# Altium footprint library Supernova Inductors.PcbLib: 56 footprints (part 3 of 4)
Each footprint in its own frame and in the unit in brackets; x right, y up, seen from the top. Pads: shape width x height; smd on the part's side, far side on the other; paste and mask are expansions set on the pad; w line width, h text height; cw(c..) or ccw(c..) is an arc to the next point about the centre after c.
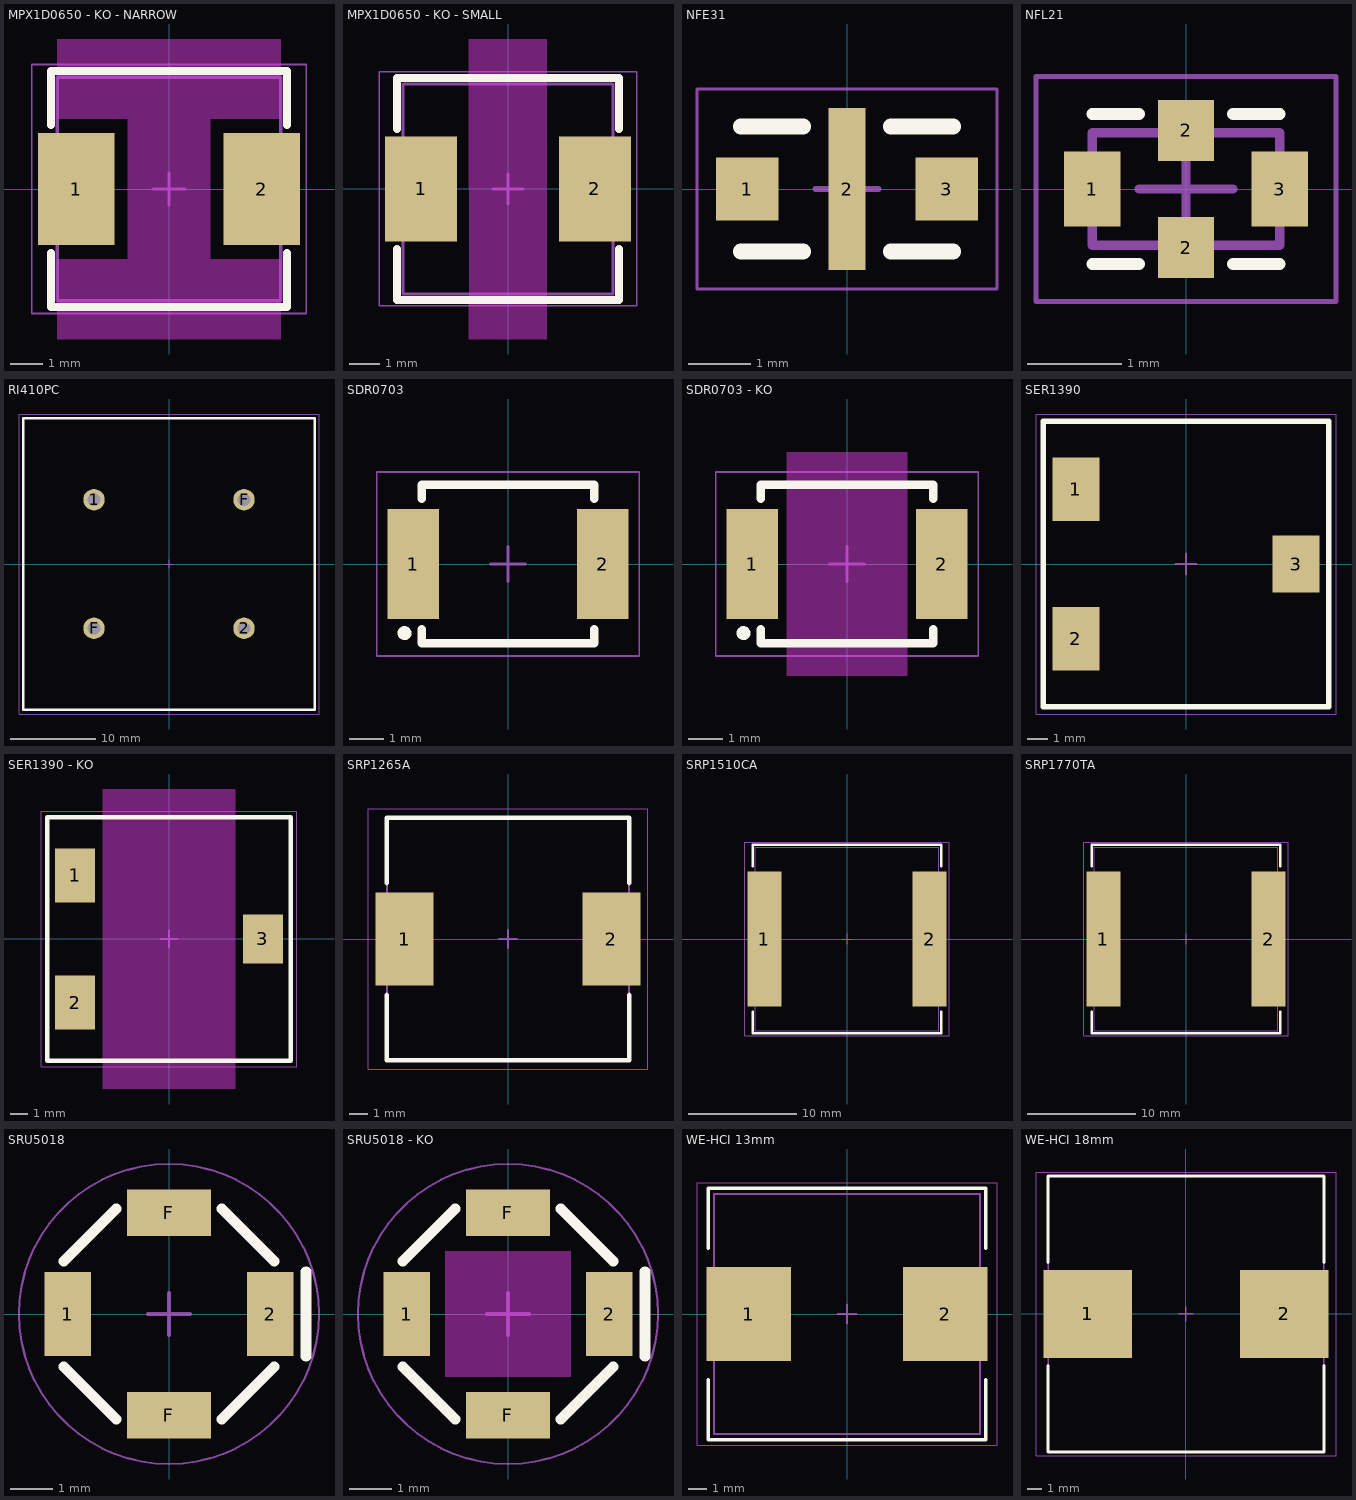
[diagram p2: the footprints below, top view; thin cyan lines are the x and y axes]

## MPX1D0650 - KO - NARROW [mm] "Precision Wire Wound Inductor, 2-Leads, Body 4.00x4.00mm, IPC Medium Density"
height 3
pads (2):
  rect 2.4x3.5 smd paste-0.2: 1(-2.9,0) 2(2.9,0)
Top Overlay:
  lines w0.254: -3.7,-2 -3.7,-3.7 3.7,-3.7 3.7,-2 ; -3.7,2 -3.7,3.7 3.7,3.7 3.7,2
Keep-Out Layer:
  region: -3.5,4.7 -3.5,2.2 -1.3,2.2 -1.3,-2.2 -3.5,-2.2 -3.5,-4.7 3.5,-4.7 3.5,-2.2 1.3,-2.2 1.3,2.2 3.5,2.2 3.5,4.7
Top 3D Body (Mech13):
  lines w0.1: -3.5,-3.5 3.5,-3.5 3.5,3.5 -3.5,3.5 -3.5,-3.5
Top Courtyard:
  lines w0.05: -4.3,-3.9 4.3,-3.9 4.3,3.9 -4.3,3.9 -4.3,-3.9
  lines w0.1: -0.5,0 0.5,0 ; 0,-0.5 0,0.5
3D body: height 5, standoff 0, extent -3.5,-3.5 3.5,3.5

## MPX1D0650 - KO - SMALL [mm] "Precision Wire Wound Inductor, 2-Leads, Body 4.00x4.00mm, IPC Medium Density"
height 3
pads (2):
  rect 2.4x3.5 smd paste-0.2: 1(-2.9,0) 2(2.9,0)
Top Overlay:
  lines w0.254: -3.7,-2 -3.7,-3.7 3.7,-3.7 3.7,-2 ; -3.7,2 -3.7,3.7 3.7,3.7 3.7,2
Keep-Out Layer:
  region: -1.3,5 -1.3,2.2 -1.3,-2.2 -1.3,-5 1.3,-5 1.3,-2.2 1.3,2.2 1.3,5
Top 3D Body (Mech13):
  lines w0.1: -3.5,-3.5 -3.5,3.5 3.5,3.5 3.5,-3.5 -3.5,-3.5
Top Courtyard:
  lines w0.05: -4.3,-3.9 -4.3,3.9 4.3,3.9 4.3,-3.9 -4.3,-3.9
  lines w0.1: -0.5,0 0.5,0 ; 0,-0.5 0,0.5
3D body: height 5, standoff 0, extent -3.5,-3.5 3.5,3.5

## NFE31 [mm]
pads (3):
  rect 1x1 smd: 1(-1.6,0) 3(1.6,0)
  rect 0.6x2.6 smd: 2(0,0)
Top Overlay:
  lines w0.254: -1.7,-1 -0.7,-1 ; -1.7,1 -0.7,1 ; 0.7,-1 1.7,-1 ; 0.7,1 1.7,1
Top Courtyard:
  lines w0.05: -2.4,-1.6 2.4,-1.6 2.4,1.6 -2.4,1.6 -2.4,-1.6
  lines w0.1: -0.5,0 0.5,0 ; 0,-0.5 0,0.5
3D body: height 1.49, standoff 0.1, extent -0.903,-0.699 -0.503,0.699
3D body: height 1.59, standoff 0, extent -1.603,-0.798 -0.903,0.798
3D body: height 1.49, standoff 0.1, extent 0.503,-0.699 0.903,0.699
3D body: height 1.59, standoff 0, extent 0.903,-0.798 1.603,0.798
3D body: height 1.6, standoff 0, extent -0.5,-0.8 0.5,0.8

## NFL21 [mm]
pads (4):
  rect 0.6x0.8 smd mask+0.051: 1(-1,0) 3(1,0)
  rect 0.6x0.65 smd mask+0.051: 2(0,-0.625) 2(0,0.625)
Top Overlay:
  lines w0.127: -1,-0.8 -0.5,-0.8 ; -1,0.8 -0.5,0.8 ; 0.5,-0.8 1,-0.8 ; 0.5,0.8 1,0.8
Top 3D Body (Mech13):
  lines w0.1: -1,-0.6 1,-0.6 1,0.6 -1,0.6 -1,-0.6
Top Courtyard:
  lines w0.05: -1.6,-1.2 -1.6,1.2 1.6,1.2 1.6,-1.2 -1.6,-1.2
  lines w0.1: -0.5,0 0.5,0 ; 0,-0.5 0,0.5
3D body: height 1, standoff 0, extent 0.7,-0.6 1,0.6
3D body: height 1, standoff 0, extent -1,-0.6 -0.7,0.6
3D body: height 1, standoff 0, extent -0.7,-0.6 -0.3,0.6
3D body: height 1, standoff 0, extent 0.3,-0.6 0.7,0.6
3D body: height 1, standoff 0, extent -0.3,-0.5 0.3,0.5
3D body: height 1, standoff 0, extent -0.3,0.5 0.3,0.6
3D body: height 1, standoff 0, extent -0.3,-0.6 0.3,-0.5

## RI410PC [mm]
pads (4):
  round 2.5 hole 1.5: 1(-8.75,7.5) 2(8.75,-7.5) F(-8.75,-7.5) F(8.75,7.5)
Top Overlay:
  lines w0.254: -17,-17 -17,17 17,17 17,-17 -17,-17
Top Courtyard:
  lines w0.05: -17.5,-17.5 17.5,-17.5 17.5,17.5 -17.5,17.5 -17.5,-17.5
  lines w0.1: -0.5,0 0.5,0 ; 0,-0.5 0,0.5
3D body: height 28, standoff 0, extent -16.5,-16.5 16.5,16.5

## SDR0703 [mm]
pads (2):
  rect 1.5x3.2 smd paste-0.15: 1(-2.75,0) 2(2.75,0)
Top Overlay:
  circle w0.203: c-3.002,-2.004 r0.102
  lines w0.254: -2.5,-1.9 -2.5,-2.3 2.5,-2.3 2.5,-1.9 ; -2.5,1.9 -2.5,2.3 2.5,2.3 2.5,1.9
Top Courtyard:
  lines w0.05: -3.81,-2.667 -3.81,2.667 3.81,2.667 3.81,-2.667 -3.81,-2.667
  lines w0.1: -0.5,0 0.5,0 ; 0,-0.5 0,0.5
3D body "sdr0703.stp": height 2.7, standoff 0, extent -3.25,-2.341 3.25,2.159

## SDR0703 - KO [mm]
pads (2):
  rect 1.5x3.2 smd paste-0.15: 1(-2.75,0) 2(2.75,0)
Top Overlay:
  circle w0.203: c-3.002,-2.004 r0.102
  lines w0.254: -2.5,-1.9 -2.5,-2.3 2.5,-2.3 2.5,-1.9 ; -2.5,1.9 -2.5,2.3 2.5,2.3 2.5,1.9
Keep-Out Layer:
  rectangle: -1.75,-3.25 1.75,3.25
Top Courtyard:
  lines w0.05: -3.81,-2.667 -3.81,2.667 3.81,2.667 3.81,-2.667 -3.81,-2.667
  lines w0.1: -0.5,0 0.5,0 ; 0,-0.5 0,0.5
3D body "sdr0703.stp": height 2.7, standoff 0, extent -3.25,-2.25 3.25,2.25

## SER1390 [mm]
pads (3):
  rect 2.26x3.07 smd paste-0.15: 1(-5.32,3.605) 2(-5.32,-3.605)
  rect 2.26x2.77 smd paste-0.15: 3(5.32,0)
Top Overlay:
  lines w0.254: -6.9,-6.9 -6.9,6.9 6.9,6.9 6.9,-6.9 -6.9,-6.9
Top Courtyard:
  lines w0.05: -7.25,-7.25 7.25,-7.25 7.25,7.25 -7.25,7.25 -7.25,-7.25
  lines w0.1: -0.5,0 0.5,0 ; 0,-0.5 0,0.5
3D body "Coilcraft-SER1390.step": height 8.98, standoff -0.02, extent -6.75,-6.75 6.75,6.75

## SER1390 - KO [mm]
pads (3):
  rect 2.26x3.07 smd paste-0.15: 1(-5.32,3.605) 2(-5.32,-3.605)
  rect 2.26x2.77 smd paste-0.15: 3(5.32,0)
Top Overlay:
  lines w0.254: -6.9,-6.9 6.9,-6.9 6.9,6.9 -6.9,6.9 -6.9,-6.9
Keep-Out Layer:
  region: -3.75,8.5 3.75,8.5 3.75,-8.5 -3.75,-8.5
Top Courtyard:
  lines w0.05: -7.25,-7.25 -7.25,7.25 7.25,7.25 7.25,-7.25 -7.25,-7.25
  lines w0.1: -0.5,0 0.5,0 ; 0,-0.5 0,0.5
3D body "Coilcraft-SER1390.step": height 8.98, standoff -0.02, extent -6.75,-6.75 6.75,6.75

## SRP1265A [mm] "Precision Wire Wound Inductor, 2-Leads, Body 4.00x4.00mm, IPC Medium Density"
height 3
pads (2):
  rect 3.1x5 smd paste-0.2: 1(-5.55,0) 2(5.55,0)
Top Overlay:
  lines w0.254: -6.5,-3 -6.5,-6.5 6.5,-6.5 6.5,-3 ; -6.5,3 -6.5,6.5 6.5,6.5 6.5,3
Top 3D Body (Mech13):
  lines w0.1: -6.5,-6.5 -6.5,6.5 6.5,6.5 6.5,-6.5 -6.5,-6.5
Top Courtyard:
  lines w0.05: -7.5,-7 -7.5,7 7.5,7 7.5,-7 -7.5,-7
  lines w0.1: -0.5,0 0.5,0 ; 0,-0.5 0,0.5
3D body "SRP1265C SERIES.stp": height 6.31, standoff 0, extent -6.744,-6.3 6.744,6.3

## SRP1510CA [mm] "Precision Wire Wound Inductor, 2-Leads, Body 4.00x4.00mm, IPC Medium Density"
height 3
pads (2):
  rect 3.15x12.5 smd paste-0.2: 1(-7.675,0) 2(7.675,0)
Top Overlay:
  lines w0.254: -8.75,-6.75 -8.75,-8.75 8.75,-8.75 8.75,-6.75 ; -8.75,6.75 -8.75,8.75 8.75,8.75 8.75,6.75
Top 3D Body (Mech13):
  lines w0.1: -8.5,-8.5 -8.5,8.5 8.5,8.5 8.5,-8.5 -8.5,-8.5
Top Courtyard:
  lines w0.05: -9.5,-9 -9.5,9 9.5,9 9.5,-9 -9.5,-9
  lines w0.1: -0.5,0 0.5,0 ; 0,-0.5 0,0.5
3D body "SRP1770C.stp": height 6.71, standoff 0, extent -8.8,-8.45 8.8,8.45

## SRP1770TA [mm] "Precision Wire Wound Inductor, 2-Leads, Body 4.00x4.00mm, IPC Medium Density"
height 3
pads (2):
  rect 3.15x12.5 smd paste-0.2: 1(-7.675,0) 2(7.675,0)
Top Overlay:
  lines w0.254: -8.75,-6.75 -8.75,-8.75 8.75,-8.75 8.75,-6.75 ; -8.75,6.75 -8.75,8.75 8.75,8.75 8.75,6.75
Top 3D Body (Mech13):
  lines w0.1: -8.5,-8.5 8.5,-8.5 8.5,8.5 -8.5,8.5 -8.5,-8.5
Top Courtyard:
  lines w0.05: -9.5,-9 9.5,-9 9.5,9 -9.5,9 -9.5,-9
  lines w0.1: -0.5,0 0.5,0 ; 0,-0.5 0,0.5
3D body "SRP1770C.stp": height 6.71, standoff 0, extent -8.8,-8.45 8.8,8.45

## SRU5018 [mm]
pads (4):
  rect 1.1x2 smd paste-0.1: 1(-2.4,0) 2(2.4,0)
  rect 2x1.1 smd paste-0.1: F(0,-2.4) F(0,2.4)
Top Overlay:
  lines w0.254: -2.5,-1.25 -1.25,-2.5 ; -2.5,1.25 -1.25,2.5 ; 1.25,-2.5 2.5,-1.25 ; 1.25,2.5 2.5,1.25 ; 3.25,-1 3.25,1
Top Courtyard:
  circle w0.05: c0,0 r3.558
  lines w0.1: -0.5,0 0.5,0 ; 0,-0.5 0,0.5
3D body "sru5018.stp": height 1.8, standoff 0, extent -2.6,-2.6 2.6,2.6

## SRU5018 - KO [mm]
pads (4):
  rect 1.1x2 smd paste-0.1: 1(-2.4,0) 2(2.4,0)
  rect 2x1.1 smd paste-0.1: F(0,-2.4) F(0,2.4)
Top Overlay:
  lines w0.254: -2.5,-1.25 -1.25,-2.5 ; -2.5,1.25 -1.25,2.5 ; 1.25,-2.5 2.5,-1.25 ; 1.25,2.5 2.5,1.25 ; 3.25,-1 3.25,1
Keep-Out Layer:
  rectangle: -1.5,-1.5 1.5,1.5
Top Courtyard:
  circle w0.05: c0,0 r3.558
  lines w0.1: -0.5,0 0.5,0 ; 0,-0.5 0,0.5
3D body "sru5018.stp": height 1.8, standoff 0, extent -2.6,-2.6 2.6,2.6

## WE-HCI 13mm [mm] "Precision Wire Wound Inductor, 2-Leads, Body 18.20x18.20mm, IPC Medium Density"
height 8.9
pads (2):
  rect 4.5x5 smd paste-0.5: 1(-5.25,0) 2(5.25,0)
Top Overlay:
  lines w0.2: -7.4,-3.5 -7.4,-6.7 7.4,-6.7 7.4,-3.5 ; -7.4,3.5 -7.4,6.7 7.4,6.7 7.4,3.5
Top 3D Body (Mech13):
  lines w0.1: -7.1,-6.4 -7.1,6.4 7.1,6.4 7.1,-6.4 -7.1,-6.4
Top Courtyard:
  lines w0.05: -8,-7 -8,7 8,7 8,-7 -8,-7
  lines w0.1: -0.5,0 0.5,0 ; 0,-0.5 0,0.5
3D body "744355122_Download_STP_WE-HCI-1365_rev1.stp": height 6.24, standoff 0.04, extent -7.1,-6.4 7.1,6.4

## WE-HCI 18mm [mm] "Precision Wire Wound Inductor, 2-Leads, Body 18.20x18.20mm, IPC Medium Density"
height 8.9
pads (2):
  rect 6x6 smd paste-0.5: 1(-6.65,0) 2(6.65,0)
Top Overlay:
  lines w0.2: -9.35,-3.5 -9.35,-9.35 9.35,-9.35 9.35,-3.5 ; -9.35,3.5 -9.35,9.35 9.35,9.35 9.35,3.5
Top 3D Body (Mech13):
  lines w0.1: -9.35,-9.35 9.35,-9.35 9.35,9.35 -9.35,9.35 -9.35,-9.35
Top Courtyard:
  lines w0.05: -10.175,-9.6 10.175,-9.6 10.175,9.6 -10.175,9.6 -10.175,-9.6
  lines w0.1: -0.5,0 0.5,0 ; 0,-0.5 0,0.5
3D body: height 8.9, standoff 0, extent -9.35,-9.35 9.35,9.35